# EAGLE library part INA219AIDCNR (library INA219)
CURRENT/POWER MONITOR
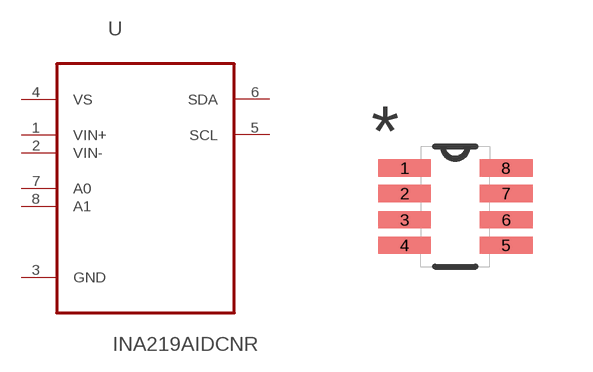
[diagram p0: symbol with the pads of SOT65P280X145-8N; footprint SOT65P280X145-8N]

Designator prefix U

## INA219AIDCNR (MPN: INA219AIDCNR; OC_FARNELL: 1682558; OC_NEWARK: 09P2546; PACKAGE: SOT-23-8; SUPPLIER: Texas Instruments)  [SOT65P280X145-8N]
1  VIN+  in
2  VIN-  in
3  GND  pas
4  VS  pwr
5  SCL  in
6  SDA
7  A0  in
8  A1  in

## Footprint SOT65P280X145-8N (pad centres in mm)
smd 1.321 x 0.432: 1 -1.27,0.965; 2 -1.27,0.33; 3 -1.27,-0.33; 4 -1.27,-0.965; 5 1.27,-0.965; 6 1.27,-0.33; 7 1.27,0.33; 8 1.27,0.965